# Altium footprint library Capacitor.PcbLib: 38 footprints (part 1 of 3)
Each footprint in its own frame and in the unit in brackets; x right, y up, seen from the top. Pads: shape width x height; smd on the part's side, far side on the other; paste and mask are expansions set on the pad; w line width, h text height; cw(c..) or ccw(c..) is an arc to the next point about the centre after c.
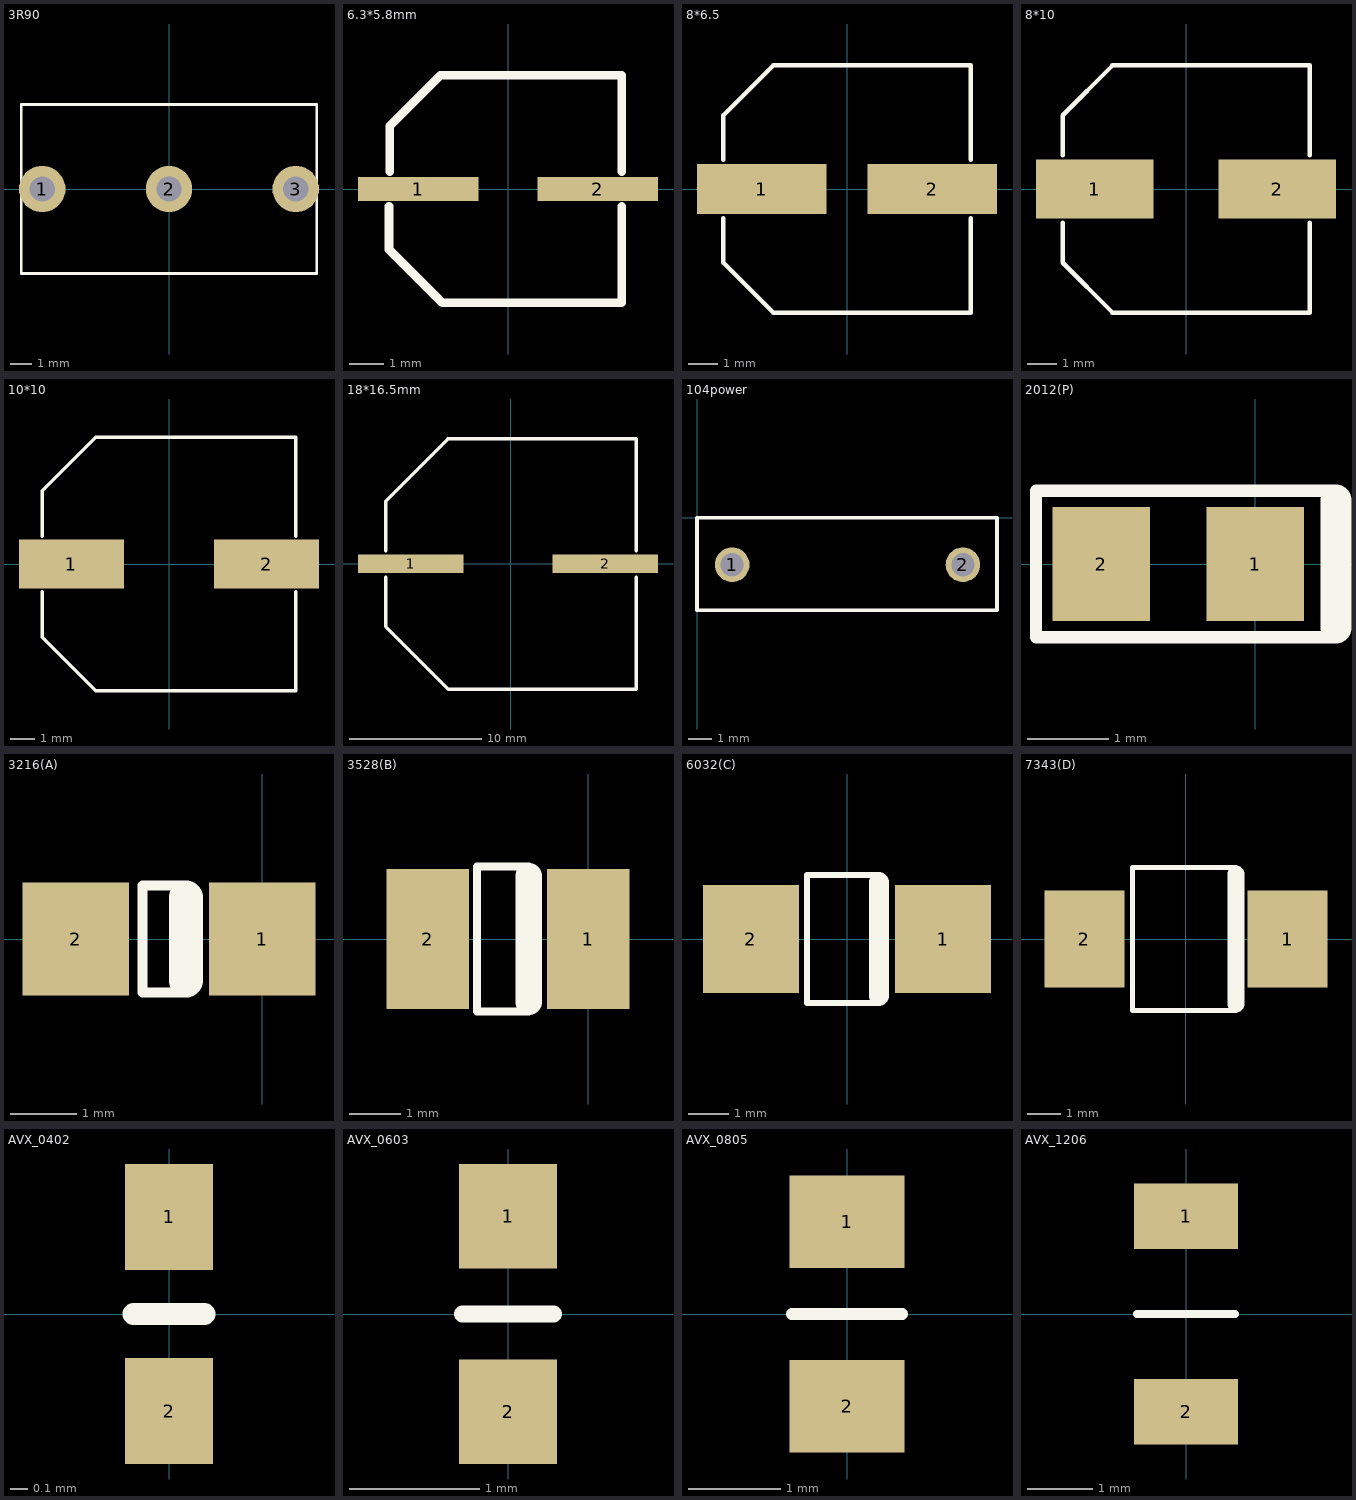
[diagram p0: the footprints below, top view; thin cyan lines are the x and y axes]

## 3R90 [mm] "Surge arrester"
height 8
pads (3):
  round 2.2 hole 1.2: 1(-6,0) 2(0,0) 3(6,0)
Top Overlay:
  lines w0.127: -7,-4 7,-4 7,4 -7,4 -7,-4

## 6.3*5.8mm [mm] "Panasonic FK series"
height 5.8
pads (2):
  rect 3.5x0.7 smd: 1(-2.6,0) 2(2.6,0)
Top Overlay:
  lines w0.254: -3.454,-0.5 -3.454,-1.65 -3.454,-1.751 -1.905,-3.3 3.3,-3.3 3.3,-0.5 ; -3.429,0.5 -3.429,1.65 -3.429,1.827 -1.956,3.3 3.3,3.3 3.3,0.5
3D body: height 5.8, standoff 0, extent -2.997,-2.997 3.023,2.997
3D body: height 0.5, standoff 0, extent -3.429,-3.353 3.327,3.302

## 8*6.5 [mm]
height 6.5
pads (2):
  rect 4.4x1.7 smd: 1(-2.9,0) 2(2.9,0)
Top Overlay:
  lines w0.152: -4.2,-2.506 -2.506,-4.2 -1.3,-4.2 4.2,-4.2 4.2,-1 ; -4.2,-2.5 -4.2,-1 ; -4.2,1 -4.2,2.5 ; -4.2,2.506 -2.506,4.2 -1.93,4.2 4.2,4.2 4.2,1

## 8*10 [mm]
height 10
pads (2):
  rect 4x2 smd: 1(-3.1,0) 2(3.1,0)
Top Overlay:
  lines w0.152: -4.195,-2.506 -2.5,-4.2 -1.295,-4.2 4.205,-4.2 4.205,-1.15 ; -4.195,-2.5 -4.195,-1.15 ; -4.195,1.15 -4.195,2.5 ; -4.195,2.506 -2.5,4.2 -1.925,4.2 4.205,4.2 4.205,1.15
3D body: height 0.5, standoff 0, extent -4.191,-4.191 4.191,4.216
3D body: height 10, standoff 0, extent -3.988,-4.013 4,3.962

## 10*10 [mm] "10*10 ELNA"
height 10
pads (2):
  rect 4.3x2 smd: 1(-4,0) 2(4,0)
Top Overlay:
  lines w0.152: -5.2,-3.004 -3.004,-5.2 5.2,-5.2 5.2,-1.15 ; -5.2,-3 -5.2,-1.15 ; -5.2,1.15 -5.2,3 ; -5.2,3.004 -3.004,5.2 5.2,5.2 5.2,1.15
3D body: height 0.5, standoff 0, extent -5.232,-5.232 5.207,5.207
3D body: height 10, standoff 0, extent -4.978,-4.978 5.029,5.004

## 18*16.5mm [mm] "Pansonic FK series"
height 16.5
pads (2):
  rect 8x1.4 smd: 1(-7.595,0) 2(7.163,0)
Top Overlay:
  lines w0.254: -9.5,-1 -9.5,-4.75 -4.74,-9.51 ; -9.5,1 -9.5,4.75 -4.764,9.486 ; -4.779,9.5 9.5,9.5 9.5,1 ; -4.73,-9.5 9.5,-9.5 9.5,-1

## 104power [mm] "power filter"
pads (2):
  round 1.5 hole 1: 1(1.524,-2.032) 2(11.524,-2.032)
Top Overlay:
  lines w0.152: 0,-4 0,0 13,0 13,-4 0,-4

## 2012(P) [mm] "2.0*1.25*1.2"
height 0.9
pads (2):
  rect 1.2x1.4 smd: 1(0,0) 2(-1.9,0)
Top Overlay:
  lines w0.152: 0.95,-0.9 -2.7,-0.9 -2.7,0.9 0.95,0.9
  lines w0.381: 0.991,-0.787 0.991,0.787

## 3216(A) [mm] "3.2*1.6*1.6"
height 1.2
pads (2):
  rect 1.6x1.7 smd: 1(0,0) 2(-2.8,0)
Top Overlay:
  lines w0.152: -1.15,0.8 -1.8,0.8 -1.8,-0.8 -1.118,-0.8
  lines w0.508: -1.143,-0.62 -1.143,0.62

## 3528(B) [mm] "3.4*2.8*1.9"
height 2.2
pads (2):
  rect 1.6x2.7 smd: 1(0,0) 2(-3.1,0)
Top Overlay:
  lines w0.152: -1.15,-1.4 -2.15,-1.4 -2.15,1.4 -1.15,1.4
  lines w0.508: -1.15,-1.22 -1.15,1.22

## 6032(C) [mm] "6.0*3.2*2.5"
height 2.2
pads (2):
  rect 2.4x2.7 smd: 1(2.4,0) 2(-2.4,0)
Top Overlay:
  lines w0.152: 0.8,-1.6 -1,-1.6 -1,1.6 0.8,1.6
  lines w0.508: 0.8,-1.422 0.8,1.422

## 7343(D) [mm] "73*43*2.8"
height 2.4
pads (2):
  rect 2.4x2.9 smd: 1(3.05,0) 2(-3.05,0)
Top Overlay:
  lines w0.152: 1.5,-2.15 -1.6,-2.15 -1.6,2.15 1.5,2.15
  lines w0.508: 1.5,-1.95 1.5,1.95

## AVX_0402 [mm]
pads (2):
  rect 0.5x0.6 smd: 1(0,0.55) 2(0,-0.55)
Top Overlay:
  lines w0.127: -0.2,0 0.2,0

## AVX_0603 [mm]
height 1
pads (2):
  rect 0.75x0.8 smd: 1(0,0.75) 2(0,-0.75)
Top Overlay:
  lines w0.127: -0.35,0 0.35,0
3D body: height 1, standoff 0, extent -0.356,-0.813 0.356,0.813

## AVX_0805 [mm]
pads (2):
  rect 1.25x1 smd: 1(0,1) 2(0,-1)
Top Overlay:
  lines w0.127: -0.6,0 0.6,0

## AVX_1206 [mm]
pads (2):
  rect 1.6x1 smd: 1(0,1.5) 2(0,-1.5)
Top Overlay:
  lines w0.127: -0.75,0 0.75,0
3D body: height 1, standoff 0, extent -0.762,-1.6 0.787,1.6